# Altium footprint library 4G2.PcbLib: 47 footprints (part 2 of 3)
Each footprint in its own frame and in the unit in brackets; x right, y up, seen from the top. Pads: shape width x height; smd on the part's side, far side on the other; paste and mask are expansions set on the pad; w line width, h text height; cw(c..) or ccw(c..) is an arc to the next point about the centre after c.
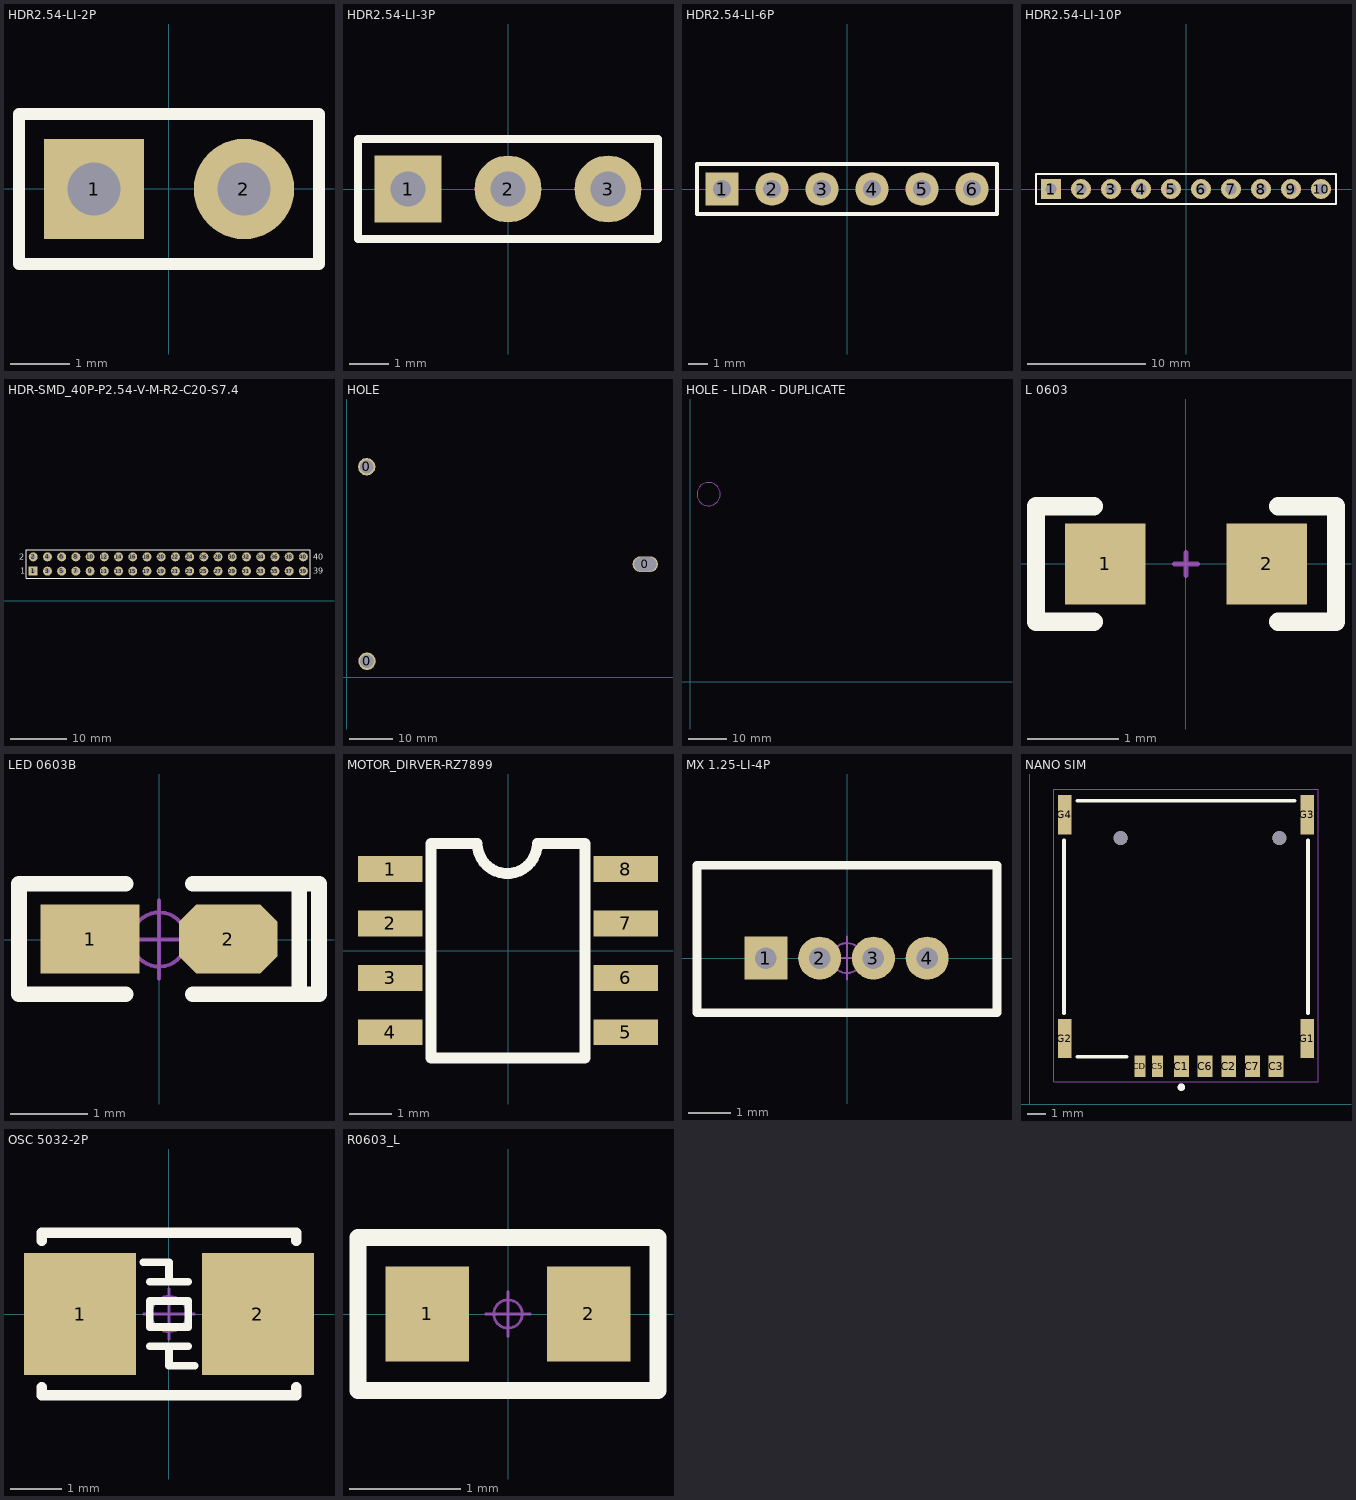
[diagram p1: the footprints below, top view; thin cyan lines are the x and y axes]

## HDR2.54-LI-2P [mm] "封装库来自淘宝卖家 ID：黄晶宝石"
height 6.86
pads (2):
  rect 1.7x1.7 hole 0.9: 1(-1.27,0)
  round 1.7 hole 0.9: 2(1.27,0)
Top Overlay:
  lines w0.2: -2.54,-1.27 2.54,-1.27 2.54,1.27 -2.54,1.27 -2.54,-1.27
3D body "HDR2.54-1P.STEP": height 8.5, standoff -3, extent -2.54,-1.27 0,1.27
3D body "HDR2.54-1P.STEP": height 8.5, standoff -3, extent 0,-1.27 2.54,1.27

## HDR2.54-LI-3P [mm] "排针，3脚"
height 2.54
pads (3):
  rect 1.7x1.7 hole 0.9: 1(-2.54,0)
  round 1.7 hole 0.9: 2(0,0) 3(2.54,0)
Top Overlay:
  lines w0.2: -3.81,-1.27 3.81,-1.27 3.81,1.27 -3.81,1.27 -3.81,-1.27
3D body "HDR2.54-1P.STEP": height 8.5, standoff -3, extent -3.81,-1.27 -1.27,1.27
3D body "HDR2.54-1P.STEP": height 8.5, standoff -3, extent -1.27,-1.27 1.27,1.27
3D body "HDR2.54-1P.STEP": height 8.5, standoff -3, extent 1.27,-1.27 3.81,1.27

## HDR2.54-LI-6P [mm] "排针，6脚"
pads (6):
  rect 1.7x1.7 hole 0.9: 1(-6.35,0)
  round 1.7 hole 0.9: 2(-3.81,0) 3(-1.27,0) 4(1.27,0) 5(3.81,0) 6(6.35,0)
Top Overlay:
  lines w0.2: -7.62,-1.27 7.62,-1.27 7.62,1.27 -7.62,1.27 -7.62,-1.27
3D body "HDR2.54-1P.STEP": height 8.5, standoff -3, extent -7.62,-1.27 -5.08,1.27
3D body "HDR2.54-1P.STEP": height 8.5, standoff -3, extent -5.08,-1.27 -2.54,1.27
3D body "HDR2.54-1P.STEP": height 8.5, standoff -3, extent -2.54,-1.27 0,1.27
3D body "HDR2.54-1P.STEP": height 8.5, standoff -3, extent 0,-1.27 2.54,1.27
3D body "HDR2.54-1P.STEP": height 8.5, standoff -3, extent 2.54,-1.27 5.08,1.27
3D body "HDR2.54-1P.STEP": height 8.5, standoff -3, extent 5.08,-1.27 7.62,1.27

## HDR2.54-LI-10P [mm] "排针，10脚   淘宝ID:黄晶宝石   店铺网址:https://shop463601444.taobao.com"
pads (10):
  rect 1.7x1.7 hole 0.9: 1(-11.43,0)
  round 1.7 hole 0.9: 2(-8.89,0) 3(-6.35,0) 4(-3.81,0) 5(-1.27,0) 6(1.27,0) 7(3.81,0) 8(6.35,0) 9(8.89,0) 10(11.43,0)
Top Overlay:
  lines w0.2: -12.7,-1.27 12.7,-1.27 12.7,1.27 -12.7,1.27 -12.7,-1.27
3D body "HDR2.54-1P.STEP": height 8.5, standoff -3, extent 10.16,-1.27 12.7,1.27
3D body "HDR2.54-1P.STEP": height 8.5, standoff -3, extent 5.08,-1.27 7.62,1.27
3D body "HDR2.54-1P.STEP": height 8.5, standoff -3, extent 7.62,-1.27 10.16,1.27
3D body "HDR2.54-1P.STEP": height 8.5, standoff -3, extent 0,-1.27 2.54,1.27
3D body "HDR2.54-1P.STEP": height 8.5, standoff -3, extent 2.54,-1.27 5.08,1.27
3D body "HDR2.54-1P.STEP": height 8.5, standoff -3, extent -2.54,-1.27 0,1.27
3D body "HDR2.54-1P.STEP": height 8.5, standoff -3, extent -7.62,-1.27 -5.08,1.27
3D body "HDR2.54-1P.STEP": height 8.5, standoff -3, extent -5.08,-1.27 -2.54,1.27
3D body "HDR2.54-1P.STEP": height 8.5, standoff -3, extent -12.7,-1.27 -10.16,1.27
3D body "HDR2.54-1P.STEP": height 8.5, standoff -3, extent -10.16,-1.27 -7.62,1.27

## HDR-SMD_40P-P2.54-V-M-R2-C20-S7.4 [mm]
pads (40):
  rect 1.6x1.6 hole 0.9: 1(10.414,5.334)
  round 1.6 hole 0.9: 2(10.414,7.874) 3(12.954,5.334) 4(12.954,7.874) 5(15.494,5.334) 6(15.494,7.874) 7(18.034,5.334) 8(18.034,7.874) 9(20.574,5.334) 10(20.574,7.874) 11(23.114,5.334) 12(23.114,7.874) 13(25.654,5.334) 14(25.654,7.874) 15(28.194,5.334) 16(28.194,7.874) 17(30.734,5.334) 18(30.734,7.874) 19(33.274,5.334) 20(33.274,7.874) 21(35.814,5.334) 22(35.814,7.874) 23(38.354,5.334) 24(38.354,7.874) 25(40.894,5.334) 26(40.894,7.874) 27(43.434,5.334) 28(43.434,7.874) 29(45.974,5.334) 30(45.974,7.874) 31(48.514,5.334) 32(48.514,7.874) 33(51.054,5.334) 34(51.054,7.874) 35(53.594,5.334) 36(53.594,7.874) 37(56.134,5.334) 38(56.134,7.874) 39(58.674,5.334) 40(58.674,7.874)
Top Overlay:
  lines w0.2: 9.144,4.064 9.144,9.144 59.944,9.144 59.944,4.064 9.144,4.064
  text "39" at 60.452,4.826 h1.02
  text "40" at 60.452,7.366 h1.02
  text "2" at 7.874,7.366 h1.02
  text "1" at 8.128,4.826 h1.02
3D body "HDR2.54-1x2P.STEP": height 8.5, standoff -3, extent 19.304,4.064 21.844,9.144
3D body "HDR2.54-1x2P.STEP": height 8.5, standoff -3, extent 11.684,4.064 14.224,9.144
3D body "HDR2.54-1x2P.STEP": height 8.5, standoff -3, extent 9.144,4.064 11.684,9.144
3D body "HDR2.54-1x2P.STEP": height 8.5, standoff -3, extent 16.764,4.064 19.304,9.144
3D body "HDR2.54-1x2P.STEP": height 8.5, standoff -3, extent 14.224,4.064 16.764,9.144
3D body "HDR2.54-1x2P.STEP": height 8.5, standoff -3, extent 32.004,4.064 34.544,9.144
3D body "HDR2.54-1x2P.STEP": height 8.5, standoff -3, extent 24.384,4.064 26.924,9.144
3D body "HDR2.54-1x2P.STEP": height 8.5, standoff -3, extent 21.844,4.064 24.384,9.144
3D body "HDR2.54-1x2P.STEP": height 8.5, standoff -3, extent 29.464,4.064 32.004,9.144
3D body "HDR2.54-1x2P.STEP": height 8.5, standoff -3, extent 26.924,4.064 29.464,9.144
3D body "HDR2.54-1x2P.STEP": height 8.5, standoff -3, extent 44.704,4.064 47.244,9.144
3D body "HDR2.54-1x2P.STEP": height 8.5, standoff -3, extent 37.084,4.064 39.624,9.144
3D body "HDR2.54-1x2P.STEP": height 8.5, standoff -3, extent 34.544,4.064 37.084,9.144
3D body "HDR2.54-1x2P.STEP": height 8.5, standoff -3, extent 42.164,4.064 44.704,9.144
3D body "HDR2.54-1x2P.STEP": height 8.5, standoff -3, extent 39.624,4.064 42.164,9.144
3D body "HDR2.54-1x2P.STEP": height 8.5, standoff -3, extent 57.404,4.064 59.944,9.144
3D body "HDR2.54-1x2P.STEP": height 8.5, standoff -3, extent 49.784,4.064 52.324,9.144
3D body "HDR2.54-1x2P.STEP": height 8.5, standoff -3, extent 47.244,4.064 49.784,9.144
3D body "HDR2.54-1x2P.STEP": height 8.5, standoff -3, extent 54.864,4.064 57.404,9.144
3D body "HDR2.54-1x2P.STEP": height 8.5, standoff -3, extent 52.324,4.064 54.864,9.144

## HOLE [mm]
pads (3):
  round 4 hole 3.175: 0(4.638,48.442) 0(4.722,3.725)
  oval 5.842x3.556 hole 3.175 slot 5.08 at 0 deg: 0(68.707,26.035)

## HOLE - LIDAR - DUPLICATE [mm]
height 6.86
Top Solder:
  drawing of 3 lines, arcs and shapes, not listed
Mechanical 1:
  circle w0.203: c4.73,48.387 r3

## L 0603 [mil] "小功率贴片电感        淘宝ID:黄晶宝石"
height 100
pads (2):
  rect 35x35 smd: 1(-35,0) 2(35,0)
Top Overlay:
  lines w8: -40,-25 -65,-25 -65,25 -40,25 ; 40,-25 65,-25 65,25 40,25
Mechanical 15:
  lines w2: -5,0 5,0 ; 0,-5 0,0 0,5
3D body "0603.STEP": height 31.5, standoff -0.11, extent -31.5,-15.75 31.5,15.75

## LED 0603B [mil] "蓝色0603LED                             淘宝ID:黄晶宝石"
height 100
pads (2):
  rect 50x35 smd: 1(-35,0.26)
  oct 50x35 smd: 2(35,0.26)
Top Overlay:
  lines w8: -17,-27.74 -71,-27.74 -71,-25.74 -71,28.26 -70,28.26 -17,28.26 ; 17,-27.74 70,-27.74 ; 17,28.26 71,28.26 81,28.26 81,-27.74 71,-27.74 71,26.26
Mechanical 15:
  circle w1.97: c0,0 r13.78
  lines w1.97: -19.69,0 19.68,0 ; 0,-19.68 0,19.69
3D body "LED 0603玻璃罩.STEP": height 23.82, standoff 8.07, extent -23.58,-15.79 23.58,15.79
3D body "LED 0603-B.STEP": height 18.34, standoff -0.16, extent -31.49,-15.79 31.5,15.79

## MOTOR_DIRVER-RZ7899 [mm]
height 2.54
pads (8):
  rect 1.5x0.6 smd paste+0 mask+0.051: 1(-2.75,1.905) 2(-2.75,0.635) 3(-2.75,-0.635) 4(-2.75,-1.905) 5(2.75,-1.905) 6(2.75,-0.635) 7(2.75,0.635) 8(2.75,1.905)
Top Overlay:
  lines w0.254: -0.716,2.5 ccw(c-0.016,2.5) 0.684,2.5 ; -0.716,2.5 -1.8,2.5 -1.8,-2.5 1.8,-2.5 1.8,2.5 0.684,2.5

## MX 1.25-LI-4P [mm] "长：6.75mm，宽：3.2mm，高：4.2mm        淘宝ID:黄晶宝石"
height 2.54
pads (4):
  rect 1x1 hole 0.5: 1(-1.885,0)
  round 1 hole 0.5: 2(-0.635,0) 3(0.615,0) 4(1.865,0)
Top Overlay:
  lines w0.2: -3.489,-1.27 -3.489,2.159 3.489,2.159 3.489,-1.27 -3.489,-1.27
Mechanical 15:
  circle w0.05: c0,0 r0.35
  lines w0.05: -0.5,0 0.5,0 ; 0,-0.5 0,0.5
3D body "MOLEX1.25-LI-4P.STEP": height 4.25, standoff -2.35, extent -3.375,-1.15 3.375,2.05

## NANO SIM [mm]
height 2.54
pads (13):
  rect 0.8x1.14 smd: C1(8.132,2.028) C2(10.672,2.028) C3(13.212,2.028) C6(9.402,2.028) C7(11.942,2.028)
  rect 0.6x1.14 smd: C5(6.862,2.028) CD(5.912,2.028)
  rect 0.7x2.1 smd: G1(14.882,3.508) G2(1.882,3.508) G3(14.882,15.508) G4(1.882,15.508)
  round 0.75 hole 0.75 unplated: ""(4.882,14.258) ""(13.382,14.258)
Top Overlay:
  circle w0.2: c8.132,0.908 r0.1
  lines w0.2: 1.837,4.878 1.837,14.138 ; 2.552,2.538 5.192,2.538 ; 2.552,16.258 14.212,16.258 ; 14.927,4.878 14.927,14.138
Mechanical 13:
  circle w0.2: c8.132,0.908 r0.1
Mechanical 15:
  lines w0.05: 1.282,1.208 15.482,1.208 15.482,16.891 1.282,16.891 1.282,1.208

## OSC 5032-2P [mm] "5mm*3.2mm*0.8mm(长*宽*高)                  淘宝ID:黄晶宝石"
height 2.54
pads (2):
  rect 2.2x2.4 smd: 1(-1.75,0) 2(1.75,0)
Top Overlay:
  lines w0.152: -0.508,1.016 0,1.016 0,0.635 ; -0.381,-0.635 0.381,-0.635 ; -0.381,0.635 0.381,0.635 ; 0,-0.635 0,-1.016 0.381,-1.016 0.508,-1.016 ; -0.381,-0.254 -0.381,0.254 0.381,0.254 0.381,-0.254 -0.381,-0.254
  lines w0.203: -2.5,-1.437 -2.5,-1.6 2.5,-1.6 2.5,-1.437 ; -2.5,1.437 -2.5,1.6 2.5,1.6 2.5,1.437
Mechanical 15:
  circle w0.05: c0,0 r0.35
  lines w0.05: -0.5,0 0.5,0 ; 0,-0.5 0,0.5
3D body "OSC 5032-2.STEP": height 0.86, standoff 0.04, extent -2.5,-1.6 2.5,1.6

## PCBComponent_1 [mm]

## PCBComponent_1 - duplicate [mm]

## R0603_L [mm] "1/10W贴片电阻"
height 6.86
pads (2):
  rect 0.75x0.85 smd: 1(-0.725,0) 2(0.725,0)
Top Overlay:
  lines w0.152: -1.346,-0.686 -1.346,0.686 1.346,0.686 1.346,-0.686 -1.346,-0.686
Mechanical 15:
  circle w0.025: c0,0 r0.127
  lines w0.025: -0.2,0 0.2,0 ; 0,-0.2 0,0.2
3D body "R0603-2.stp": height 0.4, standoff 0, extent -0.8,-0.4 0.8,0.4